# EAGLE library part CD4047BCN (library Fairchild_By_element14_Batch_1)
Low Power Monostable/Astable Multivibrator
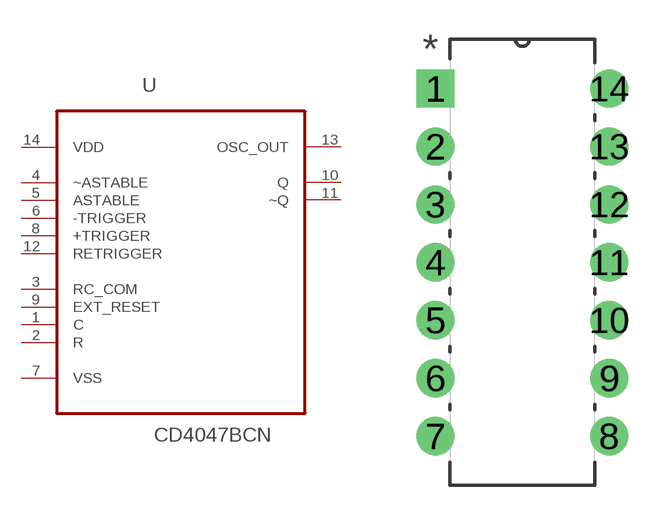
[diagram p155: symbol with the pads of DIP254P762X508-14; footprint DIP254P762X508-14]

Designator prefix U

## CD4047BCN (MPN: CD4047BCN; OC_FARNELL: 1014037; OC_NEWARK: 58K0155; PACKAGE: PDIP-14; SUPPLIER: Fairchild)  [DIP254P762X508-14]
1  C  in
2  R  in
3  RC_COM  pas
4  ~ASTABLE  in
5  ASTABLE  in
6  -TRIGGER  in
7  VSS  pwr
8  +TRIGGER  in
9  EXT_RESET  in
10  Q  out
11  ~Q  out
12  RETRIGGER  in
13  OSC_OUT  out
14  VDD  pwr

## Footprint DIP254P762X508-14 (pad centres in mm)
drill 1.118 square: 1 -7.62,15.24
drill 1.118: 2 -7.62,12.7; 3 -7.62,10.16; 4 -7.62,7.62; 5 -7.62,5.08; 6 -7.62,2.54; 7 -7.62,0; 8 0,0; 9 0,2.54; 10 0,5.08; 11 0,7.62; 12 0,10.16; 13 0,12.7; 14 0,15.24